# Altium footprint library pengyulib.PcbLib: 33 footprints (part 1 of 3)
Each footprint in its own frame and in the unit in brackets; x right, y up, seen from the top. Pads: shape width x height; smd on the part's side, far side on the other; paste and mask are expansions set on the pad; w line width, h text height; cw(c..) or ccw(c..) is an arc to the next point about the centre after c.
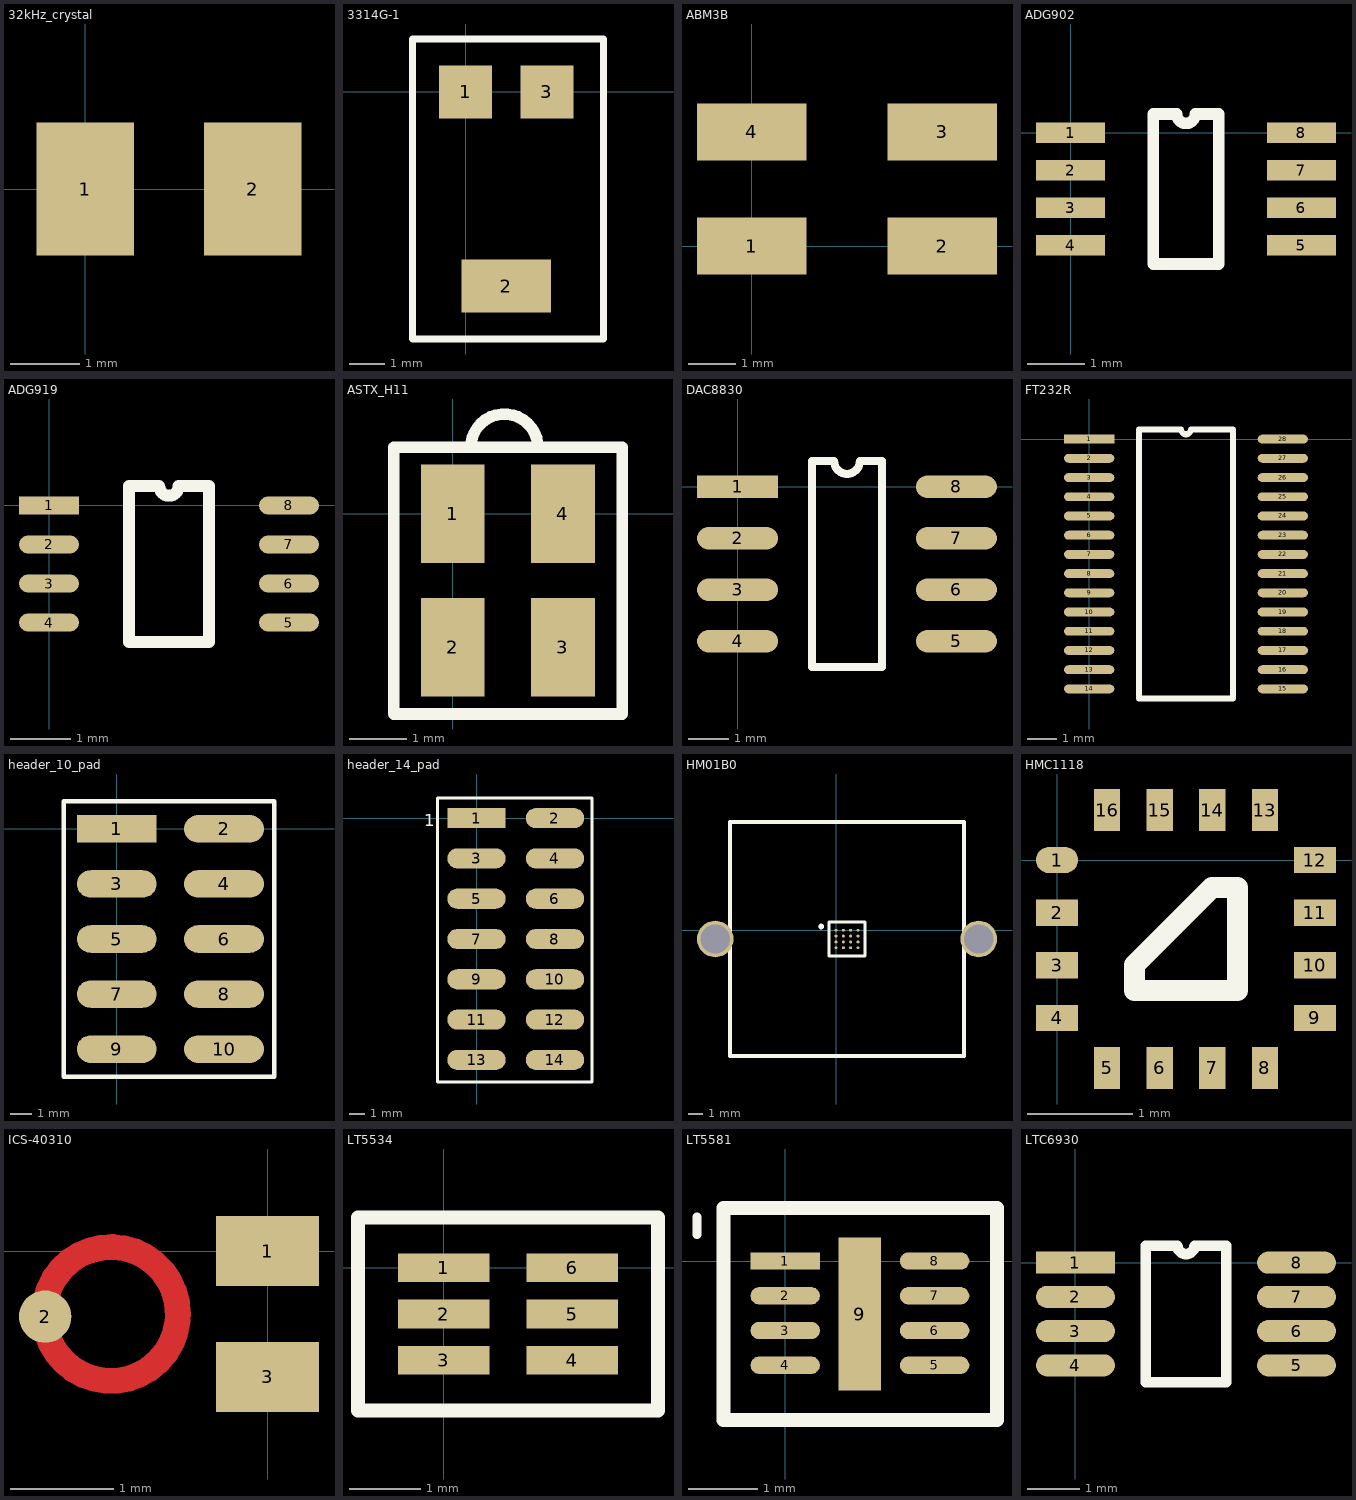
[diagram p0: the footprints below, top view; thin cyan lines are the x and y axes]

## 32kHz_crystal [mm]
pads (2):
  rect 1.4x1.9 smd: 1(0,0) 2(2.4,0)

## 3314G-1 [mm]
pads (3):
  rect 1.5x1.5 smd: 1(0,0) 3(2.3,0)
  rect 2.541x1.5 smd: 2(1.15,-5.5)
Top Overlay:
  lines w0.2: -1.5,-7 3.9,-7 3.9,1.5 -1.5,1.5 -1.5,-7

## ABM3B [mm]
pads (4):
  rect 2.3x1.2 smd: 1(0,0) 2(4,0) 3(4,2.4) 4(0,2.4)

## ADG902 [mm]
pads (8):
  rect 1.2x0.35 smd: 1(0,0) 2(0,-0.65) 3(0,-1.3) 4(0,-1.95) 5(4,-1.95) 6(4,-1.3) 7(4,-0.65) 8(4,0)
Top Overlay:
  lines w0.2: 1.435,-2.275 1.435,0.325 1.837,0.325 ccw(c2,0.325) 2.162,0.325 2.565,0.325 2.565,-2.275 1.435,-2.275

## ADG919 [mm]
pads (8):
  rect 1x0.3 smd: 1(0,0)
  oval 1x0.3 smd: 2(0,-0.65) 3(0,-1.3) 4(0,-1.95) 5(4,-1.95) 6(4,-1.3) 7(4,-0.65) 8(4,0)
Top Overlay:
  lines w0.2: 1.335,-2.275 2.665,-2.275 2.665,0.325 2.162,0.325 cw(c2,0.325) 1.837,0.325 1.335,0.325 1.335,-2.275

## ASTX_H11 [mm]
pads (4):
  rect 1.1x1.7 smd: 1(0,0) 2(0,-2.3) 3(1.9,-2.3) 4(1.9,0)
Top Overlay:
  lines w0.2: 0.314,1.214 cw(c0.889,1.143) 1.464,1.214 ; 0.375,1.15 2.921,1.15 2.921,-3.45 -1.016,-3.45 -1.016,1.15 1.525,1.15

## DAC8830 [mm]
pads (8):
  rect 2x0.55 smd: 1(0,0)
  oval 2x0.55 smd: 2(0,-1.27) 3(0,-2.54) 4(0,-3.81) 5(5.4,-3.81) 6(5.4,-2.54) 7(5.4,-1.27) 8(5.4,0)
Top Overlay:
  lines w0.2: 1.835,-4.445 1.835,0.635 2.382,0.635 ccw(c2.7,0.635) 3.017,0.635 3.565,0.635 3.565,-4.445 1.835,-4.445

## FT232R [mm]
pads (28):
  rect 1.7x0.3 smd: 1(0,0)
  oval 1.7x0.3 smd: 2(0,-0.65) 3(0,-1.3) 4(0,-1.95) 5(0,-2.6) 6(0,-3.25) 7(0,-3.9) 8(0,-4.55) 9(0,-5.2) 10(0,-5.85) 11(0,-6.5) 12(0,-7.15) 13(0,-7.8) 14(0,-8.45) 15(6.55,-8.45) 16(6.55,-7.8) 17(6.55,-7.15) 18(6.55,-6.5) 19(6.55,-5.85) 20(6.55,-5.2) 21(6.55,-4.55) 22(6.55,-3.9) 23(6.55,-3.25) 24(6.55,-2.6) 25(6.55,-1.95) 26(6.55,-1.3) 27(6.55,-0.65) 28(6.55,0)
Top Overlay:
  lines w0.2: 1.685,-8.775 1.685,0.325 3.113,0.325 ccw(c3.275,0.325) 3.437,0.325 4.865,0.325 4.865,-8.775 1.685,-8.775

## header_10_pad [mm]
pads (10):
  rect 3.68x1.27 smd: 1(0,0)
  oval 3.68x1.27 smd: 2(4.95,0) 3(0,-2.54) 4(4.95,-2.54) 5(0,-5.08) 6(4.95,-5.08) 7(0,-7.62) 8(4.95,-7.62) 9(0,-10.16) 10(4.95,-10.16)
Top Overlay:
  lines w0.2: 1.84,1.27 7.275,1.27 7.275,-11.43 -2.45,-11.43 -2.45,1.27 3.11,1.27

## header_14_pad [mm]
pads (14):
  rect 3.68x1.27 smd: 1(0,0)
  oval 3.68x1.27 smd: 2(4.95,0) 3(0,-2.54) 4(4.95,-2.54) 5(0,-5.08) 6(4.95,-5.08) 7(0,-7.62) 8(4.95,-7.62) 9(0,-10.16) 10(4.95,-10.16) 11(0,-12.7) 12(4.95,-12.7) 13(0,-15.24) 14(4.95,-15.24)
Top Overlay:
  lines w0.2: 1.84,1.27 7.275,1.27 7.275,-16.637 -2.45,-16.637 -2.45,1.27 3.11,1.27
  text "1" at -3.302,-0.508 h0.76

## HM01B0 [mm]
pads (19):
  round 0.4 on Top Overlay: 25(-1.016,0.254)
  round 0.2 smd mask+0.051: A1(0,0) A2(0.5,0) A3(1,0) A4(1.5,0) B1(0,-0.4) B2(0.5,-0.4) B3(1,-0.4) B4(1.5,-0.4) C1(0,-0.8) C2(0.5,-0.8) C3(1,-0.8) C4(1.5,-0.8) D1(0,-1.2) D2(0.5,-1.2) D3(1,-1.2) D4(1.5,-1.2)
  round 2.5 hole 2: ""(-8.25,-0.6) ""(9.75,-0.6)
Top Overlay:
  lines w0.2: -0.485,-1.765 -0.485,0.565 1.985,0.565 1.985,-1.765 -0.485,-1.765
  lines w0.254: -7.25,-8.6 -7.25,7.4 8.75,7.4 8.75,-8.6 -7.25,-8.6

## HMC1118 [mm]
pads (16):
  oval 0.4x0.25 smd: 1(0,0)
  rect 0.4x0.25 smd: 2(0,-0.5) 3(0,-1) 4(0,-1.5) 9(2.45,-1.5) 10(2.45,-1) 11(2.45,-0.5) 12(2.45,0)
  rect 0.25x0.4 smd: 5(0.475,-1.975) 6(0.975,-1.975) 7(1.475,-1.975) 8(1.975,-1.975) 13(1.975,0.475) 14(1.475,0.475) 15(0.975,0.475) 16(0.475,0.475)
Top Overlay:
  lines w0.2: 0.735,-1.24 1.715,-1.24 1.715,-0.26 1.47,-0.26 0.735,-0.995 0.735,-1.24

## ICS-40310 [mm]
pads (3):
  rect 1x0.68 smd: 1(0,0) 3(0,-1.22)
  round 0.508 smd: 2(-2.159,-0.635)
Top Layer:
  lines w0.25: -0.874,-0.679 cw(c-1.52,-0.61) -0.87,-0.61

## LT5534 [mm]
pads (6):
  rect 1.279x0.4 smd: 1(0,0) 2(0,-0.65) 3(0,-1.3) 4(1.8,-1.3) 5(1.8,-0.65) 6(1.8,0)
Top Overlay:
  lines w0.2: -1.2,-2 -1.2,0.7 3,0.7 3,-2 -1.2,-2

## LT5581 [mm]
pads (9):
  rect 1x0.25 smd: 1(0,0)
  oval 1x0.25 smd: 2(0,-0.5) 3(0,-1) 4(0,-1.5) 5(2.15,-1.5) 6(2.15,-1) 7(2.15,-0.5) 8(2.15,0)
  rect 0.61x2.2 smd: 9(1.075,-0.762)
Top Overlay:
  lines w0.127: -1.27,0.381 -1.27,0.635
  lines w0.2: -0.889,-2.286 -0.889,0.762 3.048,0.762 3.048,-2.286 -0.889,-2.286

## LTC6930 [mm]
pads (8):
  rect 1.5x0.42 smd: 1(0,0)
  oval 1.5x0.42 smd: 2(0,-0.65) 3(0,-1.3) 4(0,-1.95) 5(4.2,-1.95) 6(4.2,-1.3) 7(4.2,-0.65) 8(4.2,0)
Top Overlay:
  lines w0.2: 1.335,-2.275 2.865,-2.275 2.865,0.325 2.262,0.325 cw(c2.1,0.325) 1.937,0.325 1.335,0.325 1.335,-2.275